# Altium integrated library IHLP2525CZER6R8M01.IntLib: 1 symbol
Pins are listed as number, name and electrical type; pins without a type are passive.

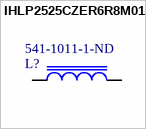
[diagram p0: symbol IHLP2525CZER6R8M01]

## IHLP2525CZER6R8M01
designator L?  Supplier Part Number 1: 541-1011-1-ND
Supplier 1: Digi-Key
footprint INDP6965X30N (Precision Wire Wound Inductor, 2-Leads, Body 6,86x6,47mm, IPC Medium Density)
pins: 1, 2